# Altium footprint library SKY6572311.PcbLib: 1 footprints
Each footprint in its own frame and in the unit in brackets; x right, y up, seen from the top. Pads: shape width x height; smd on the part's side, far side on the other; paste and mask are expansions set on the pad; w line width, h text height; cw(c..) or ccw(c..) is an arc to the next point about the centre after c.
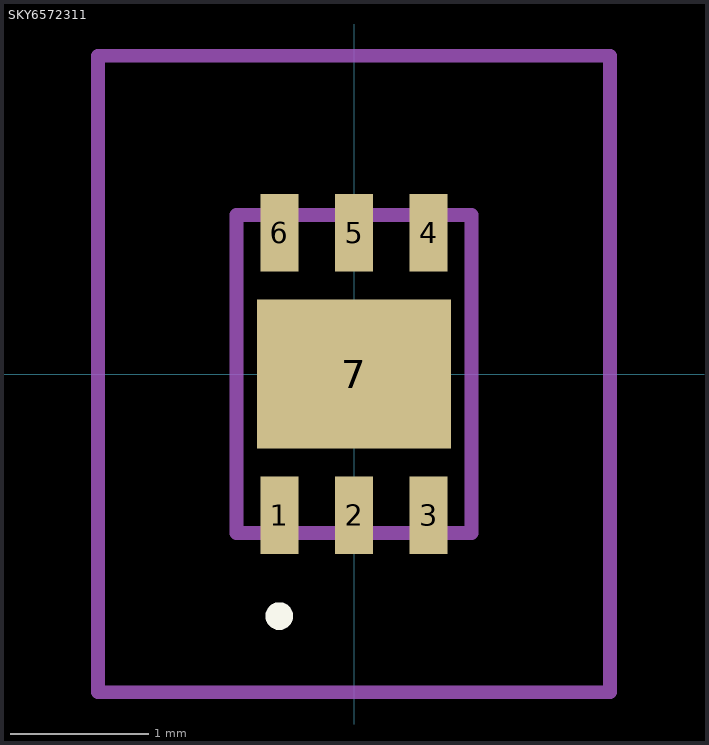
[diagram p0: the footprint, top view; thin cyan lines are the x and y axes]

## SKY6572311 [mm]
pads (7):
  rect 0.275x0.56 smd: 1(-0.54,-1.02) 2(0,-1.02) 3(0.54,-1.02) 4(0.54,1.02) 5(0,1.02) 6(-0.54,1.02)
  rect 1.4x1.08 smd: 7(0,0)
Top Overlay:
  lines w0.1: -0.54,-1.8 cw(c-0.54,-1.75) -0.54,-1.7 ; -0.54,-1.8 -0.54,-1.8 ; -0.54,-1.8 ccw(c-0.54,-1.75) -0.54,-1.7 ; -0.54,-1.7 -0.54,-1.7
Mechanical 15:
  lines w0.1: -0.85,-1.15 0.85,-1.15 0.85,1.15 -0.85,1.15 -0.85,-1.15
Mechanical 20:
  lines w0.1: -1.85,-2.3 1.85,-2.3 1.85,2.3 -1.85,2.3 -1.85,-2.3